# EAGLE library part YM2149 (library YM2149)
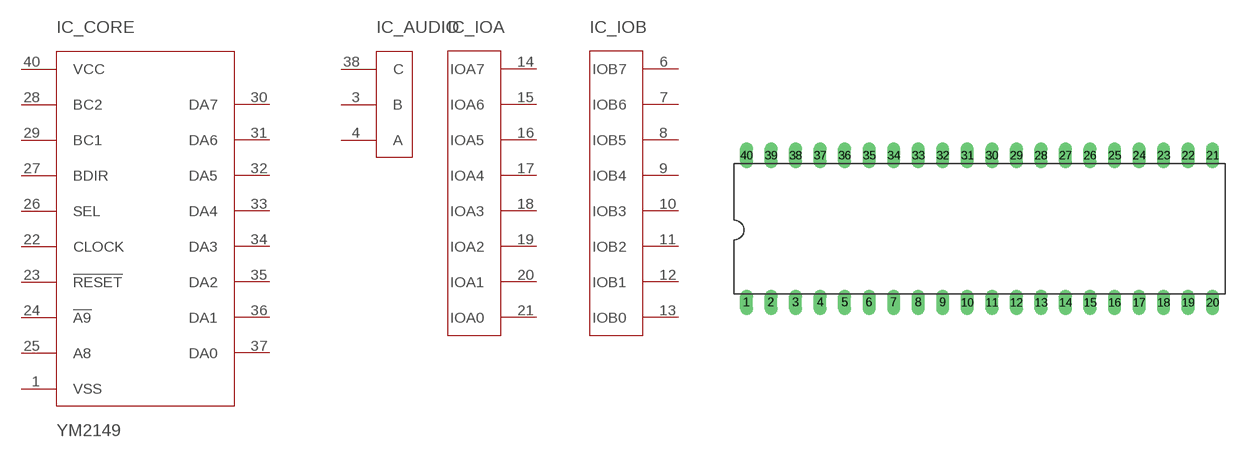
[diagram p0: symbol with the pads of DIL40; footprint DIL40]

Designator prefix IC; gates _CORE=YM2149_CORE _AUDIO=YM2149_AUDIO _IOA=YM2149_IOA _IOB=YM2149_IOB

## YM2149  [DIL40]
1  _CORE:VSS
3  _AUDIO:B
4  _AUDIO:A
6  _IOB:IOB7
7  _IOB:IOB6
8  _IOB:IOB5
9  _IOB:IOB4
10  _IOB:IOB3
11  _IOB:IOB2
12  _IOB:IOB1
13  _IOB:IOB0
14  _IOA:IOA7
15  _IOA:IOA6
16  _IOA:IOA5
17  _IOA:IOA4
18  _IOA:IOA3
19  _IOA:IOA2
20  _IOA:IOA1
21  _IOA:IOA0
22  _CORE:CLOCK
23  _CORE:!RESET!
24  _CORE:!A9!
25  _CORE:A8
26  _CORE:SEL
27  _CORE:BDIR
28  _CORE:BC2
29  _CORE:BC1
30  _CORE:DA7
31  _CORE:DA6
32  _CORE:DA5
33  _CORE:DA4
34  _CORE:DA3
35  _CORE:DA2
36  _CORE:DA1
37  _CORE:DA0
38  _AUDIO:C
40  _CORE:VCC

## Footprint DIL40 (pad centres in mm)
Dual In Line Package
drill 0.813 long: 1 -24.13,-7.62; 2 -21.59,-7.62; 3 -19.05,-7.62; 4 -16.51,-7.62; 5 -13.97,-7.62; 6 -11.43,-7.62; 7 -8.89,-7.62; 8 -6.35,-7.62; 9 -3.81,-7.62; 10 -1.27,-7.62; 11 1.27,-7.62; 12 3.81,-7.62; 13 6.35,-7.62; 14 8.89,-7.62; 15 11.43,-7.62; 16 13.97,-7.62; 17 16.51,-7.62; 18 19.05,-7.62; 19 21.59,-7.62; 20 24.13,-7.62; 21 24.13,7.62; 22 21.59,7.62; 23 19.05,7.62; 24 16.51,7.62; 25 13.97,7.62; 26 11.43,7.62; 27 8.89,7.62; 28 6.35,7.62; 29 3.81,7.62; 30 1.27,7.62; 31 -1.27,7.62; 32 -3.81,7.62; 33 -6.35,7.62; 34 -8.89,7.62; 35 -11.43,7.62; 36 -13.97,7.62; 37 -16.51,7.62; 38 -19.05,7.62; 39 -21.59,7.62; 40 -24.13,7.62